# Altium schematic symbol library SCH - POWER - LINEAR VREG - TI UCC383-3_KTT_3.SchLib: 1 symbol
Pins are listed as number, name and electrical type; pins without a type are passive.

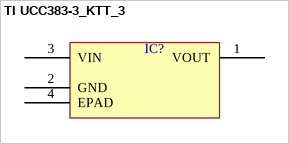
[diagram p0: symbol TI UCC383-3_KTT_3]

## TI UCC383-3_KTT_3
designator IC?  (value not drawn)
pins: 1 VOUT, 2 GND, 3 VIN, 4 EPAD